# Altium schematic symbol library NGC1081.SchLib: 1 symbol
Pins are listed as number, name and electrical type; pins without a type are passive.

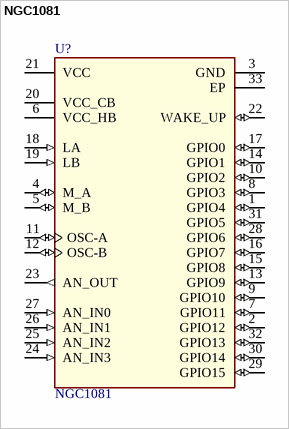
[diagram p0: symbol NGC1081]

## NGC1081
designator U?
Suitable and Optimized for NFC Communication Controlled Actuation and Sensing; Manufacturer: Infineon Technologies; Manufacturer Order Number: NGC1081; PackageReference: PG-VQFN-32-20
pins: 1 GPIO4 (io) "General Purpose Input/Outputs", 2 GPIO12 (io) "General Purpose Input/Outputs", 3 GND (power) "Ground Net", 4 M_A (io) "Motor A", 5 M_B (io) "Motor B", 6 VCC_HB (power) "Supply of H-Bridge output drivers", 7 GPIO11 (io) "General Purpose Input/Outputs", 8 GPIO3 (io) "General Purpose Input/Outputs", 9 GPIO10 (io) "General Purpose Input/Outputs", 10 GPIO2 (io) "General Purpose Input/Outputs", 11 OSC-A (io) "32-kHz Oscillator pins", 12 OSC-B (io) "32-kHz Oscillator pins", 13 GPIO9 (io) "General Purpose Input/Outputs", 14 GPIO1 (io) "General Purpose Input/Outputs", 15 GPIO8 (io) "General Purpose Input/Outputs", 16 GPIO7 (io) "General Purpose Input/Outputs", 17 GPIO0 (io) "General Purpose Input/Outputs", 18 LA (in) "NFC Antenna Pin LA", 19 LB (in) "NFC Antenna Pin LB", 20 VCC_CB (power) "in active mode connect to external supply (3.0V … 3.3V)", 21 VCC (power) "external Supply (3.0V … 3.3V)", 22 WAKE_UP (io) "external Wake-Up", 23 AN_OUT (out) "Digital to Analog Converter output voltage of Sensing Unit", 24 AN_IN3 (in) "Analog to Digital Converter input voltages of sensing unit", 25 AN_IN2 (in) "Analog to Digital Converter input voltages of sensing unit", 26 AN_IN1 (in) "Analog to Digital Converter input voltages of sensing unit", 27 AN_IN0 (in) "Analog to Digital Converter input voltages of sensing unit", 28 GPIO6 (io) "General Purpose Input/Outputs", 29 GPIO15 (io) "General Purpose Input/Outputs", 30 GPIO14 (io) "General Purpose Input/Outputs", 31 GPIO5 (io) "General Purpose Input/Outputs", 32 GPIO13 (io) "General Purpose Input/Outputs", 33 EP (power) "Exposed Pad"